# Altium schematic symbol library IC_Texas_Instruments_ISO1540DR.SchLib: 2 symbols
Pins are listed as number, name and electrical type; pins without a type are passive.

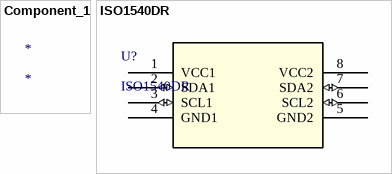
[diagram p0: symbols Component_1 to ISO1540DR]

## Component_1
designator *

## ISO1540DR
designator U?
DGTL ISOL 2500VRMS 2CH I2C 8SOIC; Vendor: Texas Instruments; Built_By: EMA_UL_Team; SourceLibrary: TI_2016-12-05; Manufacturer_Part_Number: ISO1540DR; Copyright: Copyright (C) 2018 Accelerated Designs. All rights reserved; RefDes: RefDes; Type: DEV
footprint D8_TEX-M
pins: 1 VCC1 (power), 2 SDA1 (io), 3 SCL1 (io), 4 GND1 (power), 5 GND2 (power), 6 SCL2 (io), 7 SDA2 (io), 8 VCC2 (power)